# Altium integrated library Analog Devices RF IF Attenuators, VGAs and Filters.IntLib: 8 symbols
Pins are listed as number, name and electrical type; pins without a type are passive.

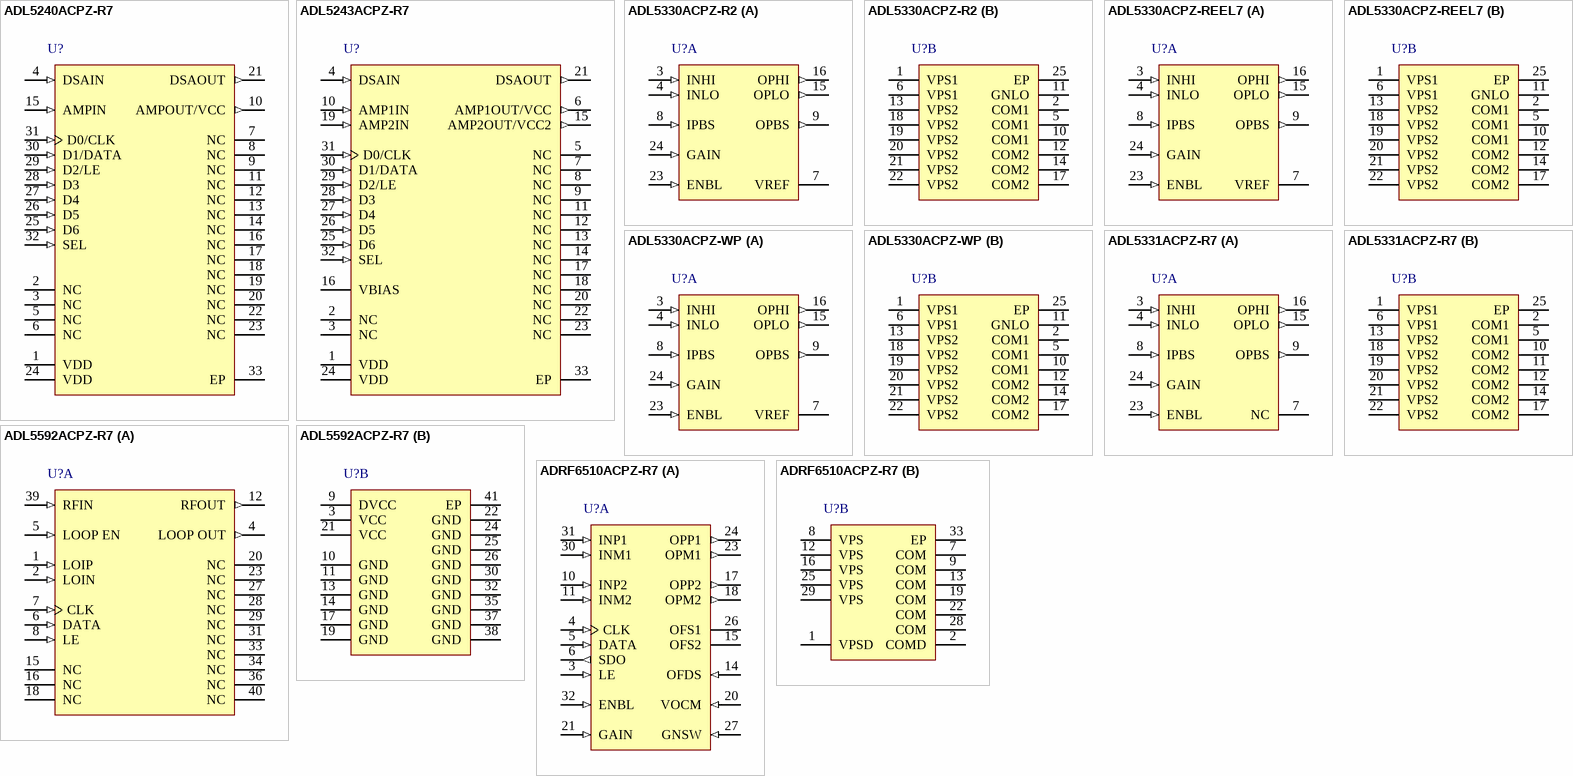
[diagram p0: symbols ADL5240ACPZ-R7 to ADRF6510ACPZ-R7]

## ADL5240ACPZ-R7
designator U?
100 MHz to 4000 MHz RF/IF Digitally Controlled VGA, 4GHz, 5.25V, CP-32-3, 1500 Reel, Pb-Free; Gain Low End: -14.3dB; Gain High End: 17.2dB; 1 dB Comp Point: 19.5dBm; Output IP3: 41dBm; Noise Figure: 2.9dB; Supply Current: 93mA; DatasheetVersion: Rev. 0; PackageVersion: Jan-2005; PackageReference: CP-32-3; PackageDescription: 32-Lead Lead Frame Chip Scale Package [LFCSP_VQ]; RF Frquency Range (MHz): 4GHz; Max Pos Supply: 5.25V; Code_JEDEC: MO-220-VHHD-2; ComponentLink1Description: Manufacturer URL; ComponentLink1URL: www.analog.com; ComponentLink2Description: Datasheet; ComponentLink2URL: http://www.analog.com/static/imported-files/data_sheets/ADL5240.pdf; ComponentLink3Description: Package Specification; ComponentLink3URL: http://www.analog.com/static/imported-files/packages/32877413525511988CP_32_3.pdf
footprint ADI-CP-32-3_N (QFN, 32-Leads, Body 5x5mm, Pitch 0.5mm, Thermal Pad 3.3x3.3mm, IPC Medium Density)
footprint ADI-CP-32-3_L (QFN, 32-Leads, Body 5x5mm, Pitch 0.5mm, Thermal Pad 3.3x3.3mm, IPC High Density)
footprint ADI-CP-32-3_M (QFN, 32-Leads, Body 5x5mm, Pitch 0.5mm, Thermal Pad 3.3x3.3mm, IPC Low Density)
pins: 1 VDD (power) "Supply Voltage for DSA. Connect this pin to a 5 V supply.", 2 NC "No Connect. Do not connect to this pin.", 3 NC "No Connect. Do not connect to this pin.", 4 DSAIN (in) "RF Input to DSA.", 5 NC "No Connect. Do not connect to this pin.", 6 NC "No Connect. Do not connect to this pin.", 7 NC "No Connect. Do not connect to this pin.", 8 NC "No Connect. Do not connect to this pin.", 9 NC "No Connect. Do not connect to this pin.", 10 AMPOUT/VCC (out) "RF Output from Amplifier/Supply Voltage for Amplifier. A bias to the amplifier is provided through a choke inductor connected to this pin.", 11 NC "No Connect. Do not connect to this pin.", 12 NC "No Connect. Do not connect to this pin.", 13 NC "No Connect. Do not connect to this pin.", 14 NC "No Connect. Do not connect to this pin.", 15 AMPIN (in) "RF Input to Amplifier.", 16 NC "No Connect. Do not connect to this pin.", 17 NC "No Connect. Do not connect to this pin.", 18 NC "No Connect. Do not connect to this pin.", 19 NC "No Connect. Do not connect to this pin.", 20 NC "No Connect. Do not connect to this pin.", 21 DSAOUT (out) "RF Output from DSA.", 22 NC "No Connect. Do not connect to this pin.", 23 NC "No Connect. Do not connect to this pin.", 24 VDD (power) "Supply Voltage for DSA. Connect this pin to a 5 V supply.", 25 D6 (in) "Data Bit in Parallel Mode (LSB). Connect this pin to the supply in serial mode.", 26 D5 (in) "Data Bit in Parallel Mode. Connect this pin to ground in serial mode.", 27 D4 (in) "Data Bit in Parallel Mode. Connect this pin to ground in serial mode.", 28 D3 (in) "Data Bit in Parallel Mode. Connect this pin to ground in serial mode.", 29 D2/LE (in) "Data Bit in Parallel Mode/Latch Enable in Serial Mode.", 30 D1/DATA (in) "Data Bit in Parallel Mode (MSB)/Data in Serial Mode.", 31 D0/CLK (in) "Connect this pin to ground in parallel mode. This pin functions as a clock in serial mode.", 32 SEL (in) "Select Pin. Connect this pin to the supply to select parallel mode operation; connect this pin to ground to select serial mode operation.", 33 EP (power) "Exposed Pad. The exposed pad must be connected to ground."

## ADL5243ACPZ-R7
designator U?
100 MHz to 4000 MHz RF/IF Digitally Controlled VGA, 4GHz, 5V, CP-32-3, 1500 Reel, Pb-Free; Gain Low End: -0.7dB; Gain High End: 30.8dB; 1 dB Comp Point: 26dBm; Output IP3: 41.1dBm; Noise Figure: 2.9dB; Supply Current: 175mA; DatasheetVersion: Rev. A; PackageVersion: Jan-2005; PackageReference: CP-32-3; PackageDescription: 32-Lead Lead Frame Chip Scale Package [LFCSP_VQ]; RF Frquency Range (MHz): 4GHz; Max Pos Supply: 5V; Code_JEDEC: MO-220-VHHD-2; ComponentLink1Description: Manufacturer URL; ComponentLink1URL: www.analog.com; ComponentLink2Description: Datasheet; ComponentLink2URL: http://www.analog.com/static/imported-files/data_sheets/ADL5243.pdf; ComponentLink3Description: Package Specification; ComponentLink3URL: http://www.analog.com/static/imported-files/packages/32877413525511988CP_32_3.pdf
footprint ADI-CP-32-3_N (QFN, 32-Leads, Body 5x5mm, Pitch 0.5mm, Thermal Pad 3.3x3.3mm, IPC Medium Density)
footprint ADI-CP-32-3_L (QFN, 32-Leads, Body 5x5mm, Pitch 0.5mm, Thermal Pad 3.3x3.3mm, IPC High Density)
footprint ADI-CP-32-3_M (QFN, 32-Leads, Body 5x5mm, Pitch 0.5mm, Thermal Pad 3.3x3.3mm, IPC Low Density)
pins: 1 VDD (power) "Supply Voltage for DSA. Connect this pin to a 5 V supply", 2 NC "No Connect. Do not connect to this pin.", 3 NC "No Connect. Do not connect to this pin.", 4 DSAIN (in) "RF Input to DSA.", 5 NC "No Connect. Do not connect to this pin.", 6 AMP1OUT/VCC (out) "RF Output from Amplifier 1/Supply Voltage for Amplifier 1. Bias to Gain Block Amplifier 1 is provided through a choke to this pin when connected to VCC.", 7 NC "No Connect. Do not connect to this pin.", 8 NC "No Connect. Do not connect to this pin.", 9 NC "No Connect. Do not connect to this pin.", 10 AMP1IN (in) "RF Input to Gain Block Amplifier 1.", 11 NC "No Connect. Do not connect to this pin.", 12 NC "No Connect. Do not connect to this pin.", 13 NC "No Connect. Do not connect to this pin.", 14 NC "No Connect. Do not connect to this pin.", 15 AMP2OUT/VCC2 (out) "RF Output from Amplifier 2/Supply Voltage for Amplifier 2. Bias to Driver Amplifier 2 is provided through a choke to this pin when connected to VCC2.", 16 VBIAS "Bias for Driver Amplifier 2.", 17 NC "No Connect. Do not connect to this pin.", 18 NC "No Connect. Do not connect to this pin.", 19 AMP2IN (in) "RF Input to Amplifier 2.", 20 NC "No Connect. Do not connect to this pin.", 21 DSAOUT (out) "RF Output from DSA.", 22 NC "No Connect. Do not connect to this pin.", 23 NC "No Connect. Do not connect to this pin.", 24 VDD (power) "Supply Voltage for DSA. Connect this pin to a 5 V supply", 25 D6 (in) "Data Bit in Parallel Mode (LSB). Connect to supply in serial mode.", 26 D5 (in) "Data Bit in Parallel Mode. Connect to ground in serial mode.", 27 D4 (in) "Data Bit in Parallel Mode. Connect to ground in serial mode.", 28 D3 (in) "Data Bit in Parallel Mode. Connect to ground in serial mode.", 29 D2/LE (in) "Data Bit in Parallel Mode/Latch Enable in Serial Mode.", 30 D1/DATA (in) "Data Bit in Parallel Mode (MSB)/Data in Serial Mode.", 31 D0/CLK (in) "Connect this pin to ground in parallel mode. This pin functions as a clock in serial mode.", 32 SEL (in) "Select Pin. Connect this pin to the supply for parallel mode operation; connect this pin to ground for serial mode operation.", 33 EP (power) "Exposed Paddle. The exposed paddle must be connected to ground."

## ADL5330ACPZ-R2
designator U?
10 MHz to 3 GHz VGA with 60 dB Gain Control Range, 3GHz, CP-24-2, 250 Reel, Pb-Free; Gain Low End: -34dB; Gain High End: 22dB; 1 dB Comp Point: 1.2dBm; Output IP3: 31dBm; Noise Figure: 14.7dB; Supply Current: 215mA; DatasheetVersion: Rev. 0; PackageVersion: Jan-2005; PackageReference: CP-24-2; PackageDescription: 24-Lead Lead Frame Chip Scale Package [LFCSP_VQ]; RF Frquency Range (MHz): 3GHz; Code_JEDEC: MO-220-VGGD-2; ComponentLink1Description: Manufacturer URL; ComponentLink1URL: www.analog.com; ComponentLink2Description: Datasheet; ComponentLink2URL: http://www.analog.com/static/imported-files/data_sheets/ADL5330.pdf; ComponentLink3Description: Package Specification; ComponentLink3URL: http://www.analog.com/static/imported-files/packages/588305704543880784658541CP_24_2.pdf
footprint ADI-CP-24-2_N (QFN, 24-Leads, Body 4x4mm, Pitch 0.5mm, Thermal Pad 2.3x2.3mm, IPC Medium Density)
footprint ADI-CP-24-2_L (QFN, 24-Leads, Body 4x4mm, Pitch 0.5mm, Thermal Pad 2.3x2.3mm, IPC High Density)
footprint ADI-CP-24-2_M (QFN, 24-Leads, Body 4x4mm, Pitch 0.5mm, Thermal Pad 2.3x2.3mm, IPC Low Density)
part A pins: 3 INHI (in) "Differential Inputs, AC-Coupled.", 4 INLO (in) "Differential Inputs, AC-Coupled.", 7 VREF "Voltage Reference. Output at 1.5 V; normally ac-coupled to ground.", 8 IPBS (in) "Input Bias. Normally ac-coupled to ground.", 9 OPBS (out) "Output Bias. AC-Coupled to ground.", 15 OPLO (out) "Low Side of Differential Output. Bias to VP with RF chokes.", 16 OPHI (out) "High Side of Differential Output. Bias to VP with RF chokes.", 23 ENBL (in) "Device Enable. Apply logic high for normal operation.", 24 GAIN (in) "Gain Control Voltage Input. Nominal range 0 V to 1.4 V."
part B pins: 1 VPS1 (power) "Positive Supply. Nominally equal to 5 V.", 2 COM1 (power) "Common for Input Stage.", 5 COM1 (power) "Common for Input Stage.", 6 VPS1 (power) "Positive Supply. Nominally equal to 5 V.", 10 COM1 (power) "Common for Input Stage.", 11 GNLO (power) "Gain Control Common. Connect to ground.", 12 COM2 (power) "Common for Output Stage.", 13 VPS2 (power) "Positive Supply. Nominally equal to 5 V.", 14 COM2 (power) "Common for Output Stage.", 17 COM2 (power) "Common for Output Stage.", 18 VPS2 (power) "Positive Supply. Nominally equal to 5 V.", 19 VPS2 (power) "Positive Supply. Nominally equal to 5 V.", 20 VPS2 (power) "Positive Supply. Nominally equal to 5 V.", 21 VPS2 (power) "Positive Supply. Nominally equal to 5 V.", 22 VPS2 (power) "Positive Supply. Nominally equal to 5 V.", 25 EP (power) "Exposed Pad."

## ADL5330ACPZ-REEL7
designator U?
10 MHz to 3 GHz VGA with 60 dB Gain Control Range, 3GHz, CP-24-2, 1500 Reel, Pb-Free; Gain Low End: -34dB; Gain High End: 22dB; 1 dB Comp Point: 1.2dBm; Output IP3: 31dBm; Noise Figure: 14.7dB; Supply Current: 215mA; DatasheetVersion: Rev. A; PackageVersion: Jan-2005; PackageReference: CP-24-2; PackageDescription: 24-Lead Lead Frame Chip Scale Package [LFCSP_VQ]; RF Frquency Range (MHz): 3GHz; Code_JEDEC: MO-220-VGGD-2; ComponentLink1Description: Manufacturer URL; ComponentLink1URL: www.analog.com; ComponentLink2Description: Datasheet; ComponentLink2URL: http://www.analog.com/static/imported-files/data_sheets/ADL5330.pdf; ComponentLink3Description: Package Specification; ComponentLink3URL: http://www.analog.com/static/imported-files/packages/588305704543880784658541CP_24_2.pdf
footprint ADI-CP-24-2_N (QFN, 24-Leads, Body 4x4mm, Pitch 0.5mm, Thermal Pad 2.3x2.3mm, IPC Medium Density)
footprint ADI-CP-24-2_L (QFN, 24-Leads, Body 4x4mm, Pitch 0.5mm, Thermal Pad 2.3x2.3mm, IPC High Density)
footprint ADI-CP-24-2_M (QFN, 24-Leads, Body 4x4mm, Pitch 0.5mm, Thermal Pad 2.3x2.3mm, IPC Low Density)
part A pins: 3 INHI (in) "Differential Inputs, AC-Coupled.", 4 INLO (in) "Differential Inputs, AC-Coupled.", 7 VREF "Voltage Reference. Output at 1.5 V; normally ac-coupled to ground.", 8 IPBS (in) "Input Bias. Normally ac-coupled to ground.", 9 OPBS (out) "Output Bias. AC-Coupled to ground.", 15 OPLO (out) "Low Side of Differential Output. Bias to VP with RF chokes.", 16 OPHI (out) "High Side of Differential Output. Bias to VP with RF chokes.", 23 ENBL (in) "Device Enable. Apply logic high for normal operation.", 24 GAIN (in) "Gain Control Voltage Input. Nominal range 0 V to 1.4 V."
part B pins: 1 VPS1 (power) "Positive Supply. Nominally equal to 5 V.", 2 COM1 (power) "Common for Input Stage.", 5 COM1 (power) "Common for Input Stage.", 6 VPS1 (power) "Positive Supply. Nominally equal to 5 V.", 10 COM1 (power) "Common for Input Stage.", 11 GNLO (power) "Gain Control Common. Connect to ground.", 12 COM2 (power) "Common for Output Stage.", 13 VPS2 (power) "Positive Supply. Nominally equal to 5 V.", 14 COM2 (power) "Common for Output Stage.", 17 COM2 (power) "Common for Output Stage.", 18 VPS2 (power) "Positive Supply. Nominally equal to 5 V.", 19 VPS2 (power) "Positive Supply. Nominally equal to 5 V.", 20 VPS2 (power) "Positive Supply. Nominally equal to 5 V.", 21 VPS2 (power) "Positive Supply. Nominally equal to 5 V.", 22 VPS2 (power) "Positive Supply. Nominally equal to 5 V.", 25 EP (power) "Exposed Pad."

## ADL5330ACPZ-WP
designator U?
10 MHz to 3 GHz VGA with 60 dB Gain Control Range, 3GHz, CP-24-2, 64 Tray, Pb-Free; Gain Low End: -34dB; Gain High End: 22dB; 1 dB Comp Point: 1.2dBm; Output IP3: 31dBm; Noise Figure: 14.7dB; Supply Current: 215mA; DatasheetVersion: Rev. A; PackageVersion: Jan-2005; PackageReference: CP-24-2; PackageDescription: 24-Lead Lead Frame Chip Scale Package [LFCSP_VQ]; RF Frquency Range (MHz): 3GHz; Code_JEDEC: MO-220-VGGD-2; ComponentLink1Description: Manufacturer URL; ComponentLink1URL: www.analog.com; ComponentLink2Description: Datasheet; ComponentLink2URL: http://www.analog.com/static/imported-files/data_sheets/ADL5330.pdf; ComponentLink3Description: Package Specification; ComponentLink3URL: http://www.analog.com/static/imported-files/packages/588305704543880784658541CP_24_2.pdf
footprint ADI-CP-24-2_N (QFN, 24-Leads, Body 4x4mm, Pitch 0.5mm, Thermal Pad 2.3x2.3mm, IPC Medium Density)
footprint ADI-CP-24-2_L (QFN, 24-Leads, Body 4x4mm, Pitch 0.5mm, Thermal Pad 2.3x2.3mm, IPC High Density)
footprint ADI-CP-24-2_M (QFN, 24-Leads, Body 4x4mm, Pitch 0.5mm, Thermal Pad 2.3x2.3mm, IPC Low Density)
part A pins: 3 INHI (in) "Differential Inputs, AC-Coupled.", 4 INLO (in) "Differential Inputs, AC-Coupled.", 7 VREF "Voltage Reference. Output at 1.5 V; normally ac-coupled to ground.", 8 IPBS (in) "Input Bias. Normally ac-coupled to ground.", 9 OPBS (out) "Output Bias. AC-Coupled to ground.", 15 OPLO (out) "Low Side of Differential Output. Bias to VP with RF chokes.", 16 OPHI (out) "High Side of Differential Output. Bias to VP with RF chokes.", 23 ENBL (in) "Device Enable. Apply logic high for normal operation.", 24 GAIN (in) "Gain Control Voltage Input. Nominal range 0 V to 1.4 V."
part B pins: 1 VPS1 (power) "Positive Supply. Nominally equal to 5 V.", 2 COM1 (power) "Common for Input Stage.", 5 COM1 (power) "Common for Input Stage.", 6 VPS1 (power) "Positive Supply. Nominally equal to 5 V.", 10 COM1 (power) "Common for Input Stage.", 11 GNLO (power) "Gain Control Common. Connect to ground.", 12 COM2 (power) "Common for Output Stage.", 13 VPS2 (power) "Positive Supply. Nominally equal to 5 V.", 14 COM2 (power) "Common for Output Stage.", 17 COM2 (power) "Common for Output Stage.", 18 VPS2 (power) "Positive Supply. Nominally equal to 5 V.", 19 VPS2 (power) "Positive Supply. Nominally equal to 5 V.", 20 VPS2 (power) "Positive Supply. Nominally equal to 5 V.", 21 VPS2 (power) "Positive Supply. Nominally equal to 5 V.", 22 VPS2 (power) "Positive Supply. Nominally equal to 5 V.", 25 EP (power) "Exposed Pad."

## ADL5331ACPZ-R7
designator U?
1 MHz to 1.2 GHz VGA with 30 dB Gain Control Range, 1.5GHz, CP-24-2, 1500 Reel, Pb-Free; Gain Low End: -14dB; Gain High End: 17dB; Output IP3: 32dBm; Noise Figure: 9dB; Supply Current: 240mA; DatasheetVersion: Rev. A; PackageVersion: Jan-2005; PackageReference: CP-24-2; PackageDescription: 24-Lead Lead Frame Chip Scale Package [LFCSP_VQ]; RF Frquency Range (MHz): 1.5GHz; Code_JEDEC: MO-220-VGGD-2; ComponentLink1Description: Manufacturer URL; ComponentLink1URL: www.analog.com; ComponentLink2Description: Datasheet; ComponentLink2URL: http://www.analog.com/static/imported-files/data_sheets/ADL5331.pdf; ComponentLink3Description: Package Specification; ComponentLink3URL: http://www.analog.com/static/imported-files/packages/588305704543880784658541CP_24_2.pdf
footprint ADI-CP-24-2_N (QFN, 24-Leads, Body 4x4mm, Pitch 0.5mm, Thermal Pad 2.3x2.3mm, IPC Medium Density)
footprint ADI-CP-24-2_L (QFN, 24-Leads, Body 4x4mm, Pitch 0.5mm, Thermal Pad 2.3x2.3mm, IPC High Density)
footprint ADI-CP-24-2_M (QFN, 24-Leads, Body 4x4mm, Pitch 0.5mm, Thermal Pad 2.3x2.3mm, IPC Low Density)
part A pins: 3 INHI (in) "Differential Inputs, AC-Coupled.", 4 INLO (in) "Differential Inputs, AC-Coupled.", 7 NC "No Connect.", 8 IPBS (in) "Input Bias. Normally ac-coupled to VPS1. A 10 nF capacitor is recommended.", 9 OPBS (out) "Output Bias. Internally compensated, do not connect externally", 15 OPLO (out) "Differential Outputs. Bias to VPOS with RF chokes.", 16 OPHI (out) "Differential Outputs. Bias to VPOS with RF chokes.", 23 ENBL (in) "Device Enable. Apply logic high for normal operation.", 24 GAIN (in) "Gain Control Voltage Input. Nominal range is 0 V to 1.4 V."
part B pins: 1 VPS1 (power) "Positive Supply. Nominally equal to 5 V.", 2 COM1 (power) "Common for the Input Stage.", 5 COM1 (power) "Common for the Input Stage.", 6 VPS1 (power) "Positive Supply. Nominally equal to 5 V.", 10 COM2 (power) "Common for the Output Stage.", 11 COM2 (power) "Common for the Output Stage.", 12 COM2 (power) "Common for the Output Stage.", 13 VPS2 (power) "Positive Supply. Nominally equal to 5 V.", 14 COM2 (power) "Common for the Output Stage.", 17 COM2 (power) "Common for the Output Stage.", 18 VPS2 (power) "Positive Supply. Nominally equal to 5 V.", 19 VPS2 (power) "Positive Supply. Nominally equal to 5 V.", 20 VPS2 (power) "Positive Supply. Nominally equal to 5 V.", 21 VPS2 (power) "Positive Supply. Nominally equal to 5 V.", 22 VPS2 (power) "Positive Supply. Nominally equal to 5 V.", 25 EP (power) "Exposed Paddle."

## ADL5592ACPZ-R7
designator U?
250 MHz to 2400 MHz RF Variable Gain Amplifier, 2.4GHz, 5.5V, CP-40-2, 750 Reel, Pb-Free; Gain High End: 30.5dB; Output IP3: 29dBm; Noise Figure: 5.7dB; Supply Current: 189mA; DatasheetVersion: Rev. 0; PackageVersion: 101306-A; PackageReference: CP-40-2; PackageDescription: 40-Lead Lead Frame Chip Scale Package [LFCSP_WQ]; RF Frquency Range (MHz): 2.4GHz; Max Pos Supply: 5.5V; Code_JEDEC: MO-220-WJJD-2; ComponentLink1Description: Manufacturer URL; ComponentLink1URL: www.analog.com; ComponentLink2Description: Datasheet; ComponentLink2URL: http://www.analog.com/static/imported-files/data_sheets/ADL5592.pdf; ComponentLink3Description: Package Specification; ComponentLink3URL: http://www.analog.com/static/imported-files/packages/CP_40_2.pdf
footprint ADI-CP-40-2_N (QFN, 40-Leads, Body 6x6mm, Pitch 0.5mm, Thermal Pad 4.15x4.15mm, IPC Medium Density)
footprint ADI-CP-40-2_L (QFN, 40-Leads, Body 6x6mm, Pitch 0.5mm, Thermal Pad 4.15x4.15mm, IPC High Density)
footprint ADI-CP-40-2_M (QFN, 40-Leads, Body 6x6mm, Pitch 0.5mm, Thermal Pad 4.15x4.15mm, IPC Low Density)
part A pins: 1 LOIP (in) "Loopback Mixer Differential LO Input. Should be ac-coupled to the source of the mixer local oscillator signal.", 2 LOIN (in) "Loopback Mixer Differential LO Input. Should be ac-coupled to ground.", 4 LOOP OUT (out) "Loopback Mixer RF Output. Single-ended 50 Ohm output.", 5 LOOP EN (in) "Loopback Mixer Enable. Apply logic high for normal transmit mode. Apply logic mode low for loopback mode.", 6 DATA (in) "SPI Data Input. Both attenuators are programmed with a single 10-bit word.", 7 CLK (in) "SPI Clock Input. Data is clocked on the rising edge of CLK.", 8 LE (in) "SPI Latch Enable. Data is latched on the falling edge of LE.", 12 RFOUT (out) "RF Output. Should be ac-coupled.", 15 NC "No Connection. The pad for Pin 28 and Pin 31 must remain free of traces to avoid stray capacitances.", 16 NC "No Connection. The pad for Pin 28 and Pin 31 must remain free of traces to avoid stray capacitances.", 18 NC "No Connection. The pad for Pin 28 and Pin 31 must remain free of traces to avoid stray capacitances.", 20 NC "No Connection. The pad for Pin 28 and Pin 31 must remain free of traces to avoid stray capacitances.", 23 NC "No Connection. The pad for Pin 28 and Pin 31 must remain free of traces to avoid stray capacitances.", 27 NC "No Connection. The pad for Pin 28 and Pin 31 must remain free of traces to avoid stray capacitances.", 28 NC "No Connection. The pad for Pin 28 and Pin 31 must remain free of traces to avoid stray capacitances.", 29 NC "No Connection. The pad for Pin 28 and Pin 31 must remain free of traces to avoid stray capacitances.", 31 NC "No Connection. The pad for Pin 28 and Pin 31 must remain free of traces to avoid stray capacitances.", 33 NC "No Connection. The pad for Pin 28 and Pin 31 must remain free of traces to avoid stray capacitances.", 34 NC "No Connection. The pad for Pin 28 and Pin 31 must remain free of traces to avoid stray capacitances.", 36 NC "No Connection. The pad for Pin 28 and Pin 31 must remain free of traces to avoid stray capacitances.", 39 RFIN (in) "RF Input. Should be ac-coupled.", 40 NC "No Connection. The pad for Pin 28 and Pin 31 must remain free of traces to avoid stray capacitances."
part B pins: 3 VCC (power) "Positive Supply. Nominally equal to 5 V. VCC and DVCC must be connected together externally   and be properly bypassed.", 9 DVCC (power) "Digital Positive Supply. Nominally equal to 5 V.", 10 GND (power) "Common. Connect to a low impedance ground plane.", 11 GND (power) "Common. Connect to a low impedance ground plane.", 13 GND (power) "Common. Connect to a low impedance ground plane.", 14 GND (power) "Common. Connect to a low impedance ground plane.", 17 GND (power) "Common. Connect to a low impedance ground plane.", 19 GND (power) "Common. Connect to a low impedance ground plane.", 21 VCC (power) "Positive Supply. Nominally equal to 5 V. VCC and DVCC must be connected together externally and be properly bypassed.", 22 GND (power) "Common. Connect to a low impedance ground plane.", 24 GND (power) "Common. Connect to a low impedance ground plane.", 25 GND (power) "Common. Connect to a low impedance ground plane.", 26 GND (power) "Common. Connect to a low impedance ground plane.", 30 GND (power) "Common. Connect to a low impedance ground plane.", 32 GND (power) "Common. Connect to a low impedance ground plane.", 35 GND (power) "Common. Connect to a low impedance ground plane.", 37 GND (power) "Common. Connect to a low impedance ground plane.", 38 GND (power) "Common. Connect to a low impedance ground plane.", 41 EP (power) "Exposed Paddle. Connect to a low impedance ground plane."

## ADRF6510ACPZ-R7
designator U?
30 MHz Dual Programmable Filters and Variable Gain Amplifiers, 2 Channels, 4.5 V to 5.5 V, CP32-2-2, 1500 Reel, Pb-Free; Gain Control: Analog; Number of Channels: 2; RF Frquency Range (MHz): 30MHz; Gain Low End: -5dB; Gain High End: 45dB; Output IP3: 25dBm; Max Pos Supply: 5.5V; Supply Current: 264mA; DatasheetVersion: Rev. A; PackageVersion: Jan-2005; PackageReference: CP-32-2; PackageDescription: 32-Lead Lead Frame Chip Scale Package [LFCSP_VQ]; Code_JEDEC: MO-220-VHHD-2; ComponentLink1Description: Manufacturer URL; ComponentLink1URL: www.analog.com; ComponentLink2Description: Datasheet; ComponentLink2URL: http://www.analog.com/static/imported-files/data_sheets/ADRF6510.pdf; ComponentLink3Description: Package Specification; ComponentLink3URL: http://www.analog.com/static/imported-files/packages/414143737956480539664569CP_32_2.pdf
footprint ADI-CP-32-2_N (QFN, 32-Leads, Body 5x5mm, Pitch 0.5mm, Thermal Pad 3.1x3.1mm, IPC Medium Density)
footprint ADI-CP-32-2_L (QFN, 32-Leads, Body 5x5mm, Pitch 0.5mm, Thermal Pad 3.1x3.1mm, IPC High Density)
footprint ADI-CP-32-2_M (QFN, 32-Leads, Body 5x5mm, Pitch 0.5mm, Thermal Pad 3.1x3.1mm, IPC Low Density)
part A pins: 3 LE (in) "Latch Enable. SPI programming pin. CMOS levels: VLOW < 0.8 V, VHIGH > 2 V.", 4 CLK (in) "SPI Port Clock. CMOS levels: VLOW < 0.8 V, VHIGH > 2 V.", 5 DATA (in) "SPI Data Input. CMOS levels: VLOW < 0.8 V, VHIGH > 2 V.", 6 SDO (out) "SPI Data Output. CMOS levels: VLOW < 0.8 V, VHIGH > 2 V.", 10 INP2 (in) "Differential Inputs. 400 ohm input impedance. Common-mode range is 1.5 V to 2.5 V; default is 2.1 V.", 11 INM2 (in) "Differential Inputs. 400 ohm input impedance. Common-mode range is 1.5 V to 2.5 V; default is 2.1 V.", 14 OFDS (in) "Offset Correction Loop Disable. Pull high to disable the offset correction loop.", 15 OFS2 "Offset Correction Loop Compensation Capacitors. Connect capacitors to circuit common.", 17 OPP2 (out) "Differential Outputs. 20 ohm output impedance. Common-mode range is 1.5 V to 3 V; default is VPS/2.", 18 OPM2 (out) "Differential Outputs. 20 ohm output impedance. Common-mode range is 1.5 V to 3 V; default is VPS/2.", 20 VOCM (in) "Output Common-Mode Setpoint. Defaults to VPS/2 if left open.", 21 GAIN (in) "Analog Gain Control. 0 V to 2 V, 30 mV/dB gain scaling", 23 OPM1 (out) "Differential Outputs. 20 ohm output impedance. Common-mode range is 1.5 V to 3 V; default is VPS/2.", 24 OPP1 (out) "Differential Outputs. 20 ohm output impedance. Common-mode range is 1.5 V to 3 V; default is VPS/2.", 26 OFS1 "Offset Correction Loop Compensation Capacitors. Connect capacitors to circuit common.", 27 GNSW (in) "Front-End Gain Switch, 6 dB or 12 dB. Pull low for 6 dB; pull high for 12 dB.", 30 INM1 (in) "Differential Inputs. 400 ohm input impedance. Common-mode range is 1.5 V to 2.5 V; default is 2.1 V.", 31 INP1 (in) "Differential Inputs. 400 ohm input impedance. Common-mode range is 1.5 V to 2.5 V; default is 2.1 V.", 32 ENBL (in) "Chip Enable. Pull high to enable."
part B pins: 1 VPSD (power) "Digital Positive Supply Voltage: 4.75 V to 5.25 V.", 2 COMD (power) "Digital Common. Connect to external circuit common using the lowest possible impedance.", 7 COM (power) "Analog Common. Connect to external circuit common.", 8 VPS (power) "Analog Positive Supply Voltage: 4.75 V to 5.25 V.", 9 COM (power) "Analog Common. Connect to external circuit common.", 12 VPS (power) "Analog Positive Supply Voltage: 4.75 V to 5.25 V.", 13 COM (power) "Analog Common. Connect to external circuit common.", 16 VPS (power) "Analog Positive Supply Voltage: 4.75 V to 5.25 V.", 19 COM (power) "Analog Common. Connect to external circuit common.", 22 COM (power) "Analog Common. Connect to external circuit common.", 25 VPS (power) "Analog Positive Supply Voltage: 4.75 V to 5.25 V.", 28 COM (power) "Analog Common. Connect to external circuit common.", 29 VPS (power) "Analog Positive Supply Voltage: 4.75 V to 5.25 V.", 33 EP (power) "Exposed Paddle. Connect the exposed paddle to a low impedance ground pad."